# Altium schematic symbol library Power-DCDC-LN2220PAR.SchLib: 1 symbol
Pins are listed as number, name and electrical type; pins without a type are passive.

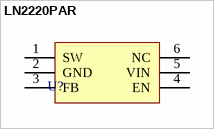
[diagram p0: symbol LN2220PAR]

## LN2220PAR
designator U?
pins: 1 SW, 2 GND, 3 FB, 4 EN, 5 VIN, 6 NC